# EAGLE library part 2MM-RA-1X12 (library J-precidip-831-2mm-RA)
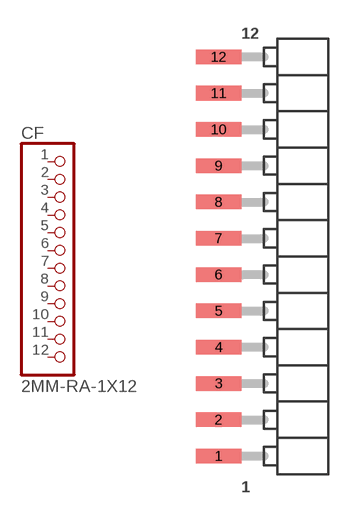
[diagram p2: symbol with the pads of CF-2MM-RA-1X12-PRECIDIP-831; footprint CF-2MM-RA-1X12-PRECIDIP-831]

Designator prefix CF

## 2MM-RA-1X12  [CF-2MM-RA-1X12-PRECIDIP-831]
1  1  pas
2  2  pas
3  3  pas
4  4  pas
5  5  pas
6  6  pas
7  7  pas
8  8  pas
9  9  pas
10  10  pas
11  11  pas
12  12  pas

## Footprint CF-2MM-RA-1X12-PRECIDIP-831 (pad centres in mm)
smd 2.5 x 0.8: 1 -3.25,-11; 2 -3.25,-9; 3 -3.25,-7; 4 -3.25,-5; 5 -3.25,-3; 6 -3.25,-1; 7 -3.25,1; 8 -3.25,3; 9 -3.25,5; 10 -3.25,7; 11 -3.25,9; 12 -3.25,11